# Altium schematic symbol library Capacitors.SchLib: 14 symbols
Pins are listed as number, name and electrical type; pins without a type are passive.

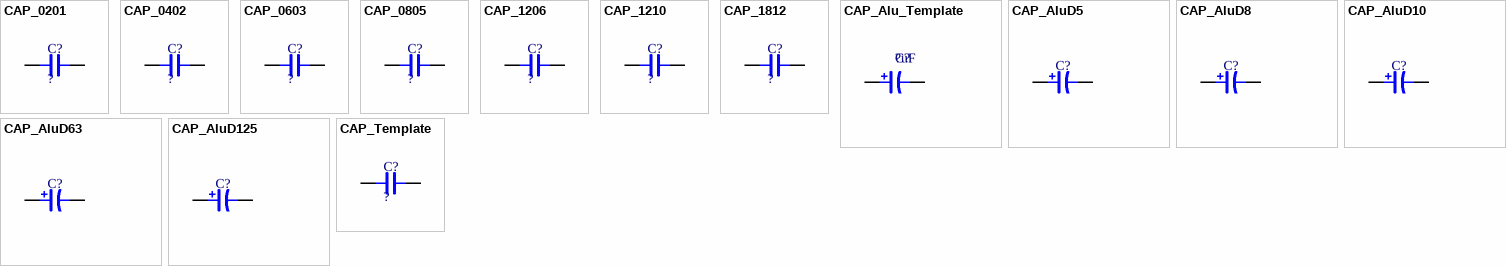
[diagram p0: symbols CAP_0201 to CAP_Template]

## CAP_0201
designator C?, comment ?
0201 Multilayer Ceramic Capacitors MLCC - SMD/SMT ROHS; LCSC Part: ?; JLCPCB Part: ?; Mfr. Part: ?; Value: ?; Voltage: ?
footprint CAP_0201
pins: 1, 2

## CAP_0402
designator C?, comment ?
0402 Multilayer Ceramic Capacitors MLCC - SMD/SMT ROHS; LCSC Part: ?; JLCPCB Part: ?; Mfr. Part: ?; Value: ?; Voltage: ?
footprint CAP_0402
pins: 1, 2

## CAP_0603
designator C?, comment ?
0603 Multilayer Ceramic Capacitors MLCC - SMD/SMT ROHS; LCSC Part: ?; JLCPCB Part: ?; Mfr. Part: ?; Value: ?; Voltage: ?
footprint CAP_0603 (Ceramic Capacitors, body 1.6x0.8mm)
pins: 1, 2

## CAP_0805
designator C?, comment ?
0805 Multilayer Ceramic Capacitors MLCC - SMD/SMT ROHS; LCSC Part: ?; JLCPCB Part: ?; Mfr. Part: ?; Value: ?; Voltage: ?
footprint CAP_0805
pins: 1, 2

## CAP_1206
designator C?, comment ?
1206 Multilayer Ceramic Capacitors MLCC - SMD/SMT ROHS; LCSC Part: ?; JLCPCB Part: ?; Mfr. Part: ?; Value: ?; Voltage: ?
footprint CAP_1206
pins: 1, 2

## CAP_1210
designator C?, comment ?
1210 Multilayer Ceramic Capacitors MLCC - SMD/SMT ROHS; LCSC Part: ?; JLCPCB Part: ?; Mfr. Part: ?; Value: ?; Voltage: ?
footprint CAP_1210
pins: 1, 2

## CAP_1812
designator C?, comment ?
1812 Multilayer Ceramic Capacitors MLCC - SMD/SMT ROHS; Mrf. Part: ?; LCSC Part: ?; JLCPCB Part: ?; Value: ?; Voltage: ?
footprint CAP_1812
pins: 1, 2

## CAP_Alu_Template
designator C?, comment ?uF
Where is the description?; JLCPCB Part: ?; LCSC Part: ?; Voltage: ?; Mfr. Part: ?; Value: ?uF
pins: 1 P, 2 N

## CAP_AluD5
designator C?
Aluminum Electrolytic Capacitors, ⌀ 5 mm; Value: ?uF; JLCPCB Part: ?; LCSC Part: ?; Voltage: ?; Mfr. Part: ?
footprint CAP_AluD5
pins: 1 P, 2 N

## CAP_AluD8
designator C?
Aluminum Electrolytic Capacitors, ⌀ 8 mm; Value: ?uF; JLCPCB part: ?; LCSC part: ?; Voltage: ?; Mrf . part: ?
footprint CAP_AluD8
pins: 1 P, 2 N

## CAP_AluD10
designator C?
Aluminum Electrolytic Capacitors, ⌀ 10 mm; Vaule: ?uF; JLCPCB part: ?; LCSC part: ?; Voltage: ?; Mrf . part: ?
footprint CAP_AluD10
pins: 1 P, 2 N

## CAP_AluD63
designator C?
Aluminum Electrolytic Capacitors, ⌀ 6.3 mm; Value: ?uF; JLCPCB Part: ?; LCSC Part: ?; Voltage: ?; Mfr. Part: ?
footprint CAP_AluD63
pins: 1 P, 2 N

## CAP_AluD125
designator C?
Aluminum Electrolytic Capacitors, ⌀ 12.5 mm; Value: ?uF; JLCPCB Part: ?; LCSC part: ?; Voltage: ?; Mrf . Part: ?
footprint CAP_AluD125
pins: 1 P, 2 N

## CAP_Template
designator C?, comment ?
Where is the description?; LCSC Part: ?; JLCPCB Part: ?; Mfr. Part: ?; Value: ?; Voltage: ?
pins: 1, 2